# Altium footprint library uw-madison-parts.PcbLib: 30 footprints (part 2 of 2)
Each footprint in its own frame and in the unit in brackets; x right, y up, seen from the top. Pads: shape width x height; smd on the part's side, far side on the other; paste and mask are expansions set on the pad; w line width, h text height; cw(c..) or ccw(c..) is an arc to the next point about the centre after c.
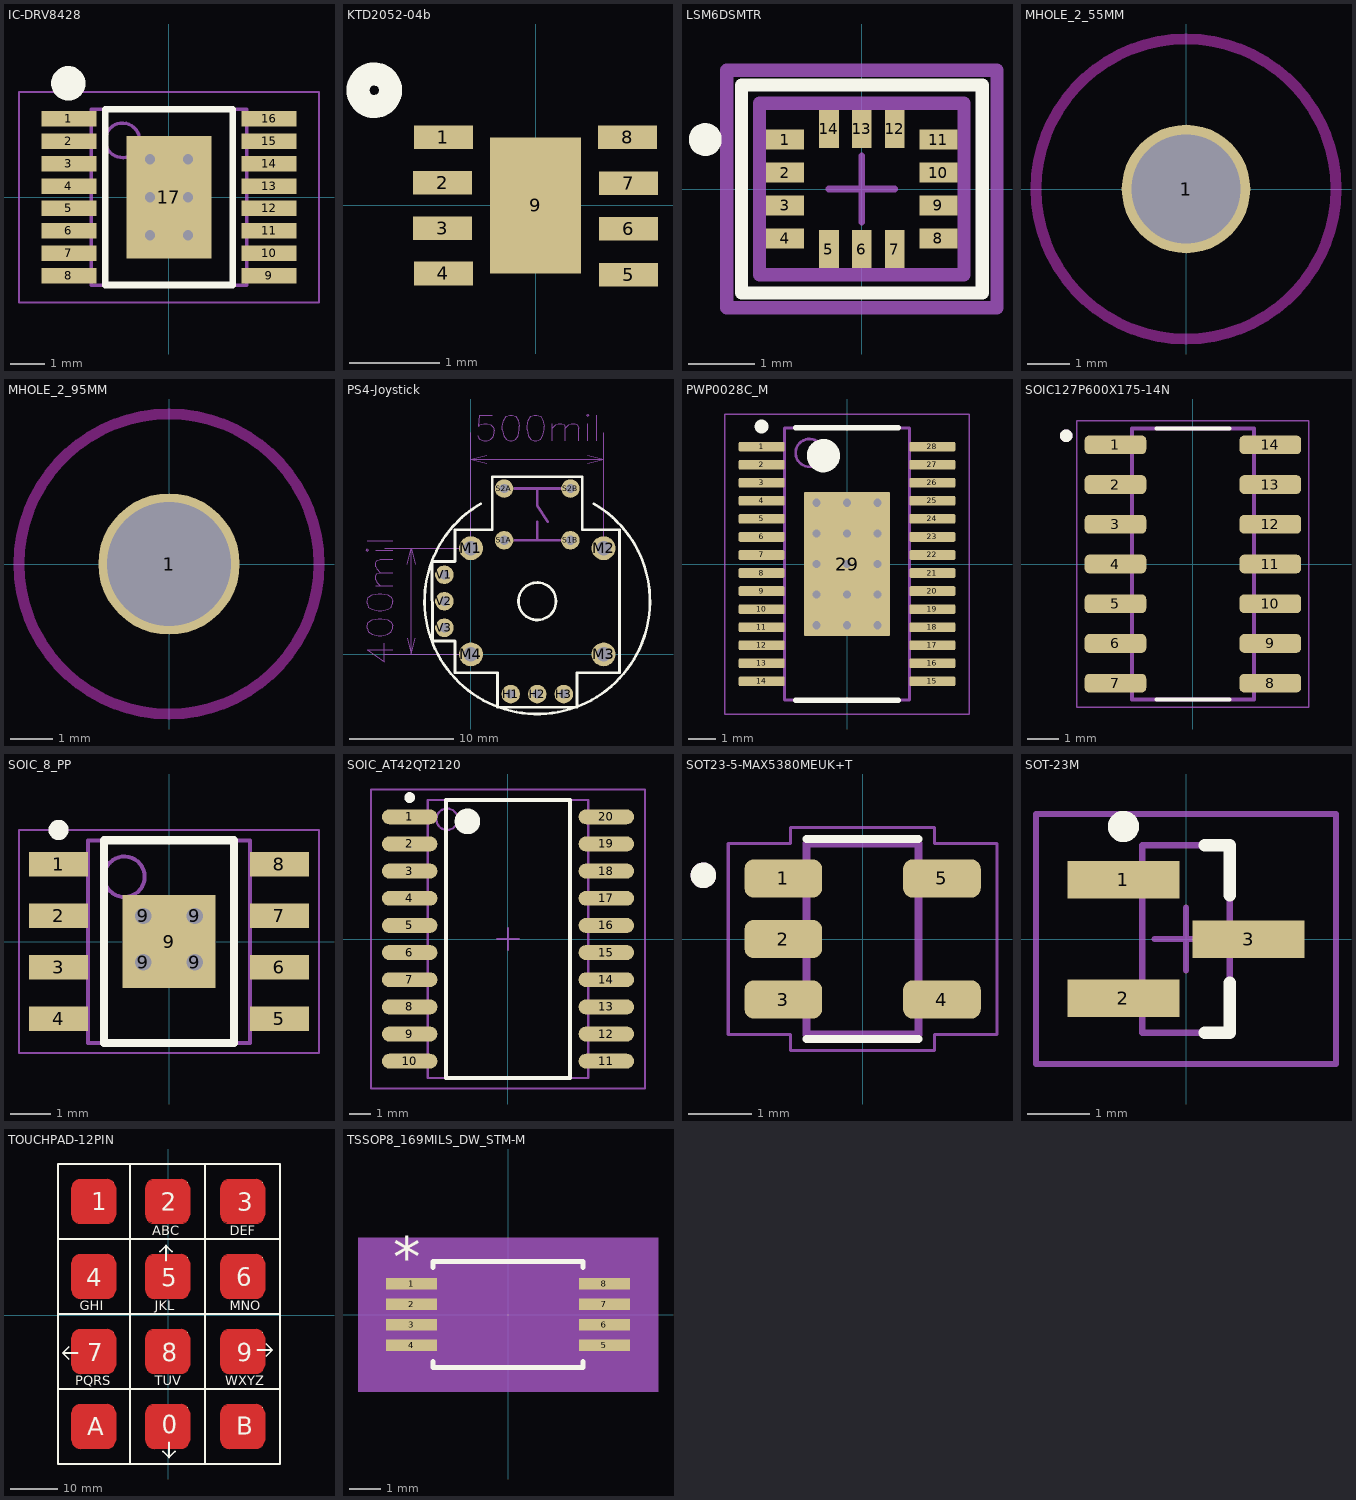
[diagram p1: the footprints below, top view; thin cyan lines are the x and y axes]

## IC-DRV8428 [mm] "TSOP, 16-Leads, Body 5.00x4.40mm, Pitch 0.65mm, Thermal Pad 3.55x2.46mm, IPC Low Density"
height 1.2
pads (17):
  rect 1.6x0.45 smd: 1(-2.9,2.275) 2(-2.9,1.625) 3(-2.9,0.975) 4(-2.9,0.325) 5(-2.9,-0.325) 6(-2.9,-0.975) 7(-2.9,-1.625) 8(-2.9,-2.275) 9(2.9,-2.275) 10(2.9,-1.625) 11(2.9,-0.975) 12(2.9,-0.325) 13(2.9,0.325) 14(2.9,0.975) 15(2.9,1.625) 16(2.9,2.275)
  rect 2.46x3.55 smd: 17(0,0)
via 0.55,-1.1 diameter 0.6 hole 0.3
via -0.55,-1.1 diameter 0.6 hole 0.3
via 0.55,0 diameter 0.6 hole 0.3
via -0.55,0 diameter 0.6 hole 0.3
via 0.55,1.1 diameter 0.6 hole 0.3
via -0.55,1.1 diameter 0.6 hole 0.3
Top Overlay:
  circle w0.5: c-2.921,3.302 r0.25
  lines w0.2: -1.85,-2.55 1.85,-2.55 1.85,2.55 -1.85,2.55 -1.85,-2.55
Mechanical 13:
  circle w0.1: c-1.35,1.65 r0.5
  lines w0.1: -2.25,-2.55 2.25,-2.55 2.25,2.55 -2.25,2.55 -2.25,-2.55
Mechanical 15:
  lines w0.05: -4.35,-3.05 4.35,-3.05 4.35,3.05 -4.35,3.05 -4.35,-3.05
  lines w0.1: -0.5,0 0.5,0 ; 0,-0.5 0,0.5
3D body: height 1.2, standoff 0.05, extent -2.25,-2.55 2.25,2.55

## KTD2052-04b [mm]
pads (9):
  rect 0.65x0.26 smd mask+0.09: 1(-1.016,0.75) 2(-1.025,0.25) 3(-1.025,-0.25) 4(-1.016,-0.75) 5(1.025,-0.762) 6(1.025,-0.258) 7(1.025,0.246) 8(1.016,0.75)
  rect 1x1.5 smd mask+0.09: 9(0,0)
Top Overlay:
  circle w0.254: c-1.778,1.27 r0.18

## LSM6DSMTR [mm]
pads (14):
  rect 0.575x0.3 smd paste+0 mask+0: 1(-1.162,0.75) 2(-1.162,0.25) 3(-1.162,-0.25) 4(-1.162,-0.75) 8(1.162,-0.75) 9(1.162,-0.25) 10(1.162,0.25) 11(1.162,0.75)
  rect 0.3x0.575 smd paste+0 mask+0: 5(-0.5,-0.913) 6(0,-0.913) 7(0.5,-0.913) 12(0.5,0.913) 13(0,0.913) 14(-0.5,0.913)
Top Overlay:
  circle w0.25: c-2.375,0.75 r0.125
  lines w0.2: -1.825,-1.575 1.825,-1.575 1.825,1.575 -1.825,1.575 -1.825,-1.575
Top 3D Body:
  lines w0.2: -1.55,-1.3 1.55,-1.3 1.55,1.3 -1.55,1.3 -1.55,-1.3
Top Courtyard:
  lines w0.2: -2.05,-1.8 2.05,-1.8 2.05,1.8 -2.05,1.8 -2.05,-1.8
Top Assembly:
  lines w0.2: -2.05,-1.8 2.05,-1.8 2.05,1.8 -2.05,1.8 -2.05,-1.8
  text ".Designator" at 0,0.188 h1
Top Component Center:
  lines w0.1: -0.5,0 0.5,0 ; 0,-0.5 0,0.5
3D body "IC_STMicroelectronics_LSM6DSMTR_eec.STEP": height 0.25, standoff 0, extent -2.05,-1.8 2.05,1.8

## MHOLE_2_55MM [mm]
pads (1):
  round 3 / inner round 4.572 / far side round 4.318 hole 2.55: 1(0,0)
Keep-Out Layer:
  circle w0.254: c0,0 r3.5

## MHOLE_2_95MM [mm]
pads (1):
  round 3.3 hole 2.9 mask-2539.97: 1(0,0)
Top Solder:
  circle w1.75: c0,0 r0.875
Bottom Solder:
  circle w1.75: c0,0 r0.875
Keep-Out Layer:
  circle w0.254: c0,0 r3.5

## PS4-Joystick [mil]
pads (14):
  round 70 hole 35: H1(150,-150) H2(250,-150) H3(350,-150) S1A(125,430) S1B(375,430) S2A(125,625) S2B(375,625) V1(-100,300) V2(-100,200) V3(-100,100)
  round 90 hole 55: M1(0,400) M2(500,400) M3(500,0) M4(0,0)
Top Overlay:
  circle w10: c250,200 r70.71
  lines w10: 37.5,568.06 ccw(c250,200) 462.5,568.06 ; -147,350 -145,50 -140,50 -60,50 -60,-70 100,-70 100,-200 400,-200 400,-70 560,-70 560,470 420,470 420,670 80,670 80,470 -60,470 -60,350 -147,350
Mechanical 15:
  lines w4: -391.08,427.23 -295.68,427.23 ; -359.28,258.13 -295.68,258.13 ; -359.28,392.73 -295.68,392.73 ; -341.08,258.13 -354.78,271.83 -359.28,280.93 -359.28,294.53 -354.78,303.63 -341.08,308.13 ; -327.48,40.93 -327.48,-27.27 -391.08,18.13 -295.68,18.13 ; -325.21,0 0,0 ; -325.21,400 0,400 0,835.56 ; -295.68,308.13 -341.08,308.13 ; -295.68,358.13 -341.08,358.13 -354.78,353.63 -359.28,344.53 -359.28,330.93 -354.78,321.83 -341.08,308.13 ; -240.21,60 -225.21,0 ; -240.21,340 -225.21,400 ; -210.21,60 -225.21,0 ; -210.21,340 -225.21,400 ; 25,824.2 29.5,815.1 34.1,810.6 47.7,806 61.4,806 75,810.6 84.1,819.7 88.6,833.3 88.6,842.4 84.1,856 75,865.1 61.4,869.7 47.7,869.7 34.1,865.1 29.5,860.6 34.1,901.5 79.5,901.5 ; 60,720.56 0,735.56 ; 60,750.56 0,735.56 ; 305.9,806 305.9,869.7 ; 305.9,851.5 319.5,865.1 328.6,869.7 342.3,869.7 351.4,865.1 355.9,851.5 ; 355.9,806 355.9,851.5 ; 405.9,806 405.9,851.5 401.4,865.1 392.3,869.7 378.6,869.7 369.5,865.1 355.9,851.5 ; 440,720.56 500,735.56 ; 440,750.56 500,735.56 ; 440.5,806 440.5,869.7 ; 475,806 475,901.5 ; 500,400 500,835.56 ; -225.21,0 -225.21,400 ; 0,735.56 500,735.56 ; -395.68,392.73 -391.08,397.23 -386.58,392.73 -391.08,388.13 -395.68,392.73 ; -391.08,98.13 -386.58,84.53 -372.98,75.43 -350.18,70.93 -336.58,70.93 -313.88,75.43 -300.18,84.53 -295.68,98.13 -295.68,107.23 -300.18,120.93 -313.88,130.03 -336.58,134.53 -350.18,134.53 -372.98,130.03 -386.58,120.93 -391.08,107.23 -391.08,98.13 ; -391.08,191.83 -386.58,178.13 -372.98,169.13 -350.18,164.53 -336.58,164.53 -313.88,169.13 -300.18,178.13 -295.68,191.83 -295.68,200.93 -300.18,214.53 -313.88,223.63 -336.58,228.13 -350.18,228.13 -372.98,223.63 -386.58,214.53 -391.08,200.93 -391.08,191.83 ; 118.6,846.9 118.6,860.6 123.2,883.3 132.3,896.9 145.9,901.5 155,901.5 168.6,896.9 177.7,883.3 182.3,860.6 182.3,846.9 177.7,824.2 168.6,810.6 155,806 145.9,806 132.3,810.6 123.2,824.2 118.6,846.9 ; 212.3,846.9 212.3,860.6 216.8,883.3 225.9,896.9 239.5,901.5 248.6,901.5 262.3,896.9 271.4,883.3 275.9,860.6 275.9,846.9 271.4,824.2 262.3,810.6 248.6,806 239.5,806 225.9,810.6 216.8,824.2 212.3,846.9 ; 435.9,901.5 440.5,896.9 445,901.5 440.5,906 435.9,901.5
  lines w10: 165,430 335,430 ; 165,625 335,625 ; 250.02,430 250,500 ; 250,625 250,560 290,500

## PWP0028C_M [mm]
pads (29):
  rrect29% 1.65x0.35 smd: 1(-3.075,4.225) 2(-3.075,3.575) 3(-3.075,2.925) 4(-3.075,2.275) 5(-3.075,1.625) 6(-3.075,0.975) 7(-3.075,0.325) 8(-3.075,-0.325) 9(-3.075,-0.975) 10(-3.075,-1.625) 11(-3.075,-2.275) 12(-3.075,-2.925) 13(-3.075,-3.575) 14(-3.075,-4.225) 15(3.075,-4.225) 16(3.075,-3.575) 17(3.075,-2.925) 18(3.075,-2.275) 19(3.075,-1.625) 20(3.075,-0.975) 21(3.075,-0.325) 22(3.075,0.325) 23(3.075,0.975) 24(3.075,1.625) 25(3.075,2.275) 26(3.075,2.925) 27(3.075,3.575) 28(3.075,4.225)
  rrect3% 3.1x5.18 smd: 29(0,0)
via -1.1,2.2 diameter 0.6 hole 0.3
via 0,2.2 diameter 0.6 hole 0.3
via 1.1,2.2 diameter 0.6 hole 0.3
via -1.1,1.1 diameter 0.6 hole 0.3
via 0,1.1 diameter 0.6 hole 0.3
via 1.1,1.1 diameter 0.6 hole 0.3
via -1.1,0 diameter 0.6 hole 0.3
via 0,0 diameter 0.6 hole 0.3
via 1.1,0 diameter 0.6 hole 0.3
via -1.1,-1.1 diameter 0.6 hole 0.3
via 0,-1.1 diameter 0.6 hole 0.3
via 1.1,-1.1 diameter 0.6 hole 0.3
via -1.1,-2.2 diameter 0.6 hole 0.3
via 0,-2.2 diameter 0.6 hole 0.3
via 1.1,-2.2 diameter 0.6 hole 0.3
Top Overlay:
  circle w0.25: c-3.075,4.95 r0.125
  circle w0.6: c-0.85,3.9 r0.3
  lines w0.2: -1.85,-4.9 1.85,-4.9 ; -1.85,4.9 1.85,4.9
Mechanical 1:
  text ".Designator" at -1.524,-0.508 h1.02
Mechanical 13:
  circle w0.1: c-1.35,4 r0.5
  lines w0.1: -2.25,-4.9 -2.25,4.9 2.25,4.9 2.25,-4.9 -2.25,-4.9
Mechanical 15:
  lines w0.05: -4.4,-5.4 -4.4,5.4 4.4,5.4 4.4,-5.4 -4.4,-5.4
  lines w0.1: -0.5,0 0.5,0 ; 0,-0.5 0,0.5
3D body: height 1.2, standoff 0.05, extent -2.25,-4.9 2.25,4.9

## SOIC127P600X175-14N [mm]
pads (14):
  rrect50% 1.97x0.6 smd: 1(-2.475,3.81) 2(-2.475,2.54) 3(-2.475,1.27) 4(-2.475,0) 5(-2.475,-1.27) 6(-2.475,-2.54) 7(-2.475,-3.81) 8(2.475,-3.81) 9(2.475,-2.54) 10(2.475,-1.27) 11(2.475,0) 12(2.475,1.27) 13(2.475,2.54) 14(2.475,3.81)
Top Overlay:
  circle w0.2: c-4.05,4.1 r0.1
  lines w0.127: -1.17,-4.325 1.17,-4.325 ; -1.17,4.325 1.17,4.325
Mechanical 13:
  circle w0.2: c-4.05,4.1 r0.1
  lines w0.127: -1.95,-4.325 1.95,-4.325 1.95,4.325 -1.95,4.325 -1.95,-4.325
Mechanical 15:
  lines w0.05: -3.71,-4.575 3.71,-4.575 3.71,4.575 -3.71,4.575 -3.71,-4.575

## SOIC_8_PP [mm] "SOIC, 8-Leads, Body 4.90x3.90mm, Pitch 1.27mm, Thermal Pad 2.29x2.29mm, IPC Medium Density"
height 1.7
pads (13):
  rect 1.45x0.6 smd: 1(-2.725,1.905) 2(-2.725,0.635) 3(-2.725,-0.635) 4(-2.725,-1.905) 5(2.725,-1.905) 6(2.725,-0.635) 7(2.725,0.635) 8(2.725,1.905)
  round 0.8 hole 0.4: 9(-0.635,-0.508) 9(-0.635,0.635) 9(0.635,-0.508) 9(0.635,0.635)
  rect 2.29x2.29 smd: 9(0,0)
Top Overlay:
  circle w0.25: c-2.725,2.755 r0.125
  lines w0.2: -1.6,-2.5 1.6,-2.5 1.6,2.5 -1.6,2.5 -1.6,-2.5
Top Courtyard:
  lines w0.05: -3.7,-2.75 3.7,-2.75 3.7,2.75 -3.7,2.75 -3.7,-2.75
  lines w0.1: -0.5,0 0.5,0 ; 0,-0.5 0,0.5
Top Assembly:
  circle w0.1: c-1.1,1.6 r0.5
  lines w0.1: -2,-2.5 2,-2.5 2,2.5 -2,2.5 -2,-2.5
3D body "SOIC127P600X170_HS-9N.step": height 1.7, standoff 0, extent -3,-2.5 3,2.5

## SOIC_AT42QT2120 [mm] "SOIC, 20-Leads, Body 12.8x7.5mm, Pitch 1.27mm, IPC Low Density"
height 2.65
pads (20):
  oval 2.6x0.7 smd: 1(-4.6,5.715) 2(-4.6,4.445) 3(-4.6,3.175) 4(-4.6,1.905) 5(-4.6,0.635) 6(-4.6,-0.635) 7(-4.6,-1.905) 8(-4.6,-3.175) 9(-4.6,-4.445) 10(-4.6,-5.715) 11(4.6,-5.715) 12(4.6,-4.445) 13(4.6,-3.175) 14(4.6,-1.905) 15(4.6,-0.635) 16(4.6,0.635) 17(4.6,1.905) 18(4.6,3.175) 19(4.6,4.445) 20(4.6,5.715)
Top Overlay:
  circle w0.25: c-4.6,6.615 r0.125
  circle w0.6: c-1.9,5.5 r0.3
  lines w0.2: -2.9,-6.5 -2.9,6.5 2.9,6.5 2.9,-6.5 -2.9,-6.5
Mechanical 13:
  circle w0.1: c-2.85,5.6 r0.5
  lines w0.1: -3.75,-6.5 -3.75,6.5 3.75,6.5 3.75,-6.5 -3.75,-6.5
Mechanical 15:
  lines w0.1: -0.5,0 0.5,0 ; 0,-0.5 0,0.5 ; -6.4,-7 -6.4,7 6.4,7 6.4,-7 -6.4,-7
3D body: height 2.65, standoff 0, extent -3.75,-6.5 3.75,6.5

## SOT23-5-MAX5380MEUK+T [mm]
pads (5):
  rrect50% 1.22x0.6 smd: 1(-1.245,0.95) 2(-1.245,0) 3(-1.245,-0.95) 4(1.245,-0.95) 5(1.245,0.95)
Top Overlay:
  circle w0.2: c-2.5,1 r0.1
  lines w0.127: -0.88,-1.57 0.88,-1.57 ; -0.88,1.57 0.88,1.57
Mechanical 13:
  circle w0.2: c-2.5,1 r0.1
  lines w0.127: -0.88,-1.5 -0.88,1.5 0.88,1.5 0.88,-1.5 -0.88,-1.5
Mechanical 15:
  lines w0.05: -2.11,-1.5 -1.13,-1.5 -1.13,-1.75 1.13,-1.75 1.13,-1.5 2.11,-1.5 2.11,1.5 1.13,1.5 1.13,1.75 -1.13,1.75 -1.13,1.5 -2.11,1.5 -2.11,-1.5

## SOT-23M [mm]
pads (3):
  rect 1.8x0.6 smd: 1(-1,0.95) 2(-1,-0.95) 3(1,0)
Top Overlay:
  circle w0.25: c-1,1.8 r0.125
  lines w0.2: 0.3,-1.5 0.7,-1.5 0.7,-0.7 ; 0.3,1.5 0.7,1.5 0.7,0.7
Mechanical 13:
  lines w0.1: -0.7,-1.5 -0.7,1.5 0.7,1.5 0.7,-1.5 -0.7,-1.5
Mechanical 15:
  lines w0.1: -0.5,0 0.5,0 ; 0,-0.5 0,0.5 ; -2.4,-2 -2.4,2 2.4,2 2.4,-2 -2.4,-2
3D body: height 1.1, standoff 0, extent -0.7,-1.5 0.7,1.5

## TOUCHPAD-12PIN [mil] "4X3 numeric touch pad"
pads (12):
  round 5 smd mask+0: 0(162.32,-770.18) 1(-452.68,1104.82) 2(162.32,1104.82) 3(787.32,1104.82) 4(-452.68,479.82) 5(162.32,479.82) 6(787.32,479.82) 7(-452.68,-145.18) 8(162.32,-145.18) 9(787.32,-145.18) 10(-452.68,-770.18) 11(787.32,-770.18)
Top Layer:
  region: 807.32,-815.18 807.32,-1040.18 782.32,-1090.18 732.32,-1115.18 507.32,-1115.18 457.32,-1090.18 432.32,-1040.18 432.32,-815.18 457.32,-765.18 507.32,-740.18 732.32,-740.18 782.32,-765.18
  region: -432.68,-815.18 -432.68,-1040.18 -457.68,-1090.18 -507.68,-1115.18 -732.68,-1115.18 -782.68,-1090.18 -807.68,-1040.18 -807.68,-815.18 -782.68,-765.18 -732.68,-740.18 -507.68,-740.18 -457.68,-765.18
  region: 807.32,-190.18 807.32,-415.18 782.32,-465.18 732.32,-490.18 507.32,-490.18 457.32,-465.18 432.32,-415.18 432.32,-190.18 457.32,-140.18 507.32,-115.18 732.32,-115.18 782.32,-140.18
  region: 182.32,-190.18 182.32,-415.18 157.32,-465.18 107.32,-490.18 -117.68,-490.18 -167.68,-465.18 -192.68,-415.18 -192.68,-190.18 -167.68,-140.18 -117.68,-115.18 107.32,-115.18 157.32,-140.18
  region: -432.68,-190.18 -432.68,-415.18 -457.68,-465.18 -507.68,-490.18 -732.68,-490.18 -782.68,-465.18 -807.68,-415.18 -807.68,-190.18 -782.68,-140.18 -732.68,-115.18 -507.68,-115.18 -457.68,-140.18
  region: 807.32,434.82 807.32,209.82 782.32,159.82 732.32,134.82 507.32,134.82 457.32,159.82 432.32,209.82 432.32,434.82 457.32,484.82 507.32,509.82 732.32,509.82 782.32,484.82
  region: 182.32,434.82 182.32,209.82 157.32,159.82 107.32,134.82 -117.68,134.82 -167.68,159.82 -192.68,209.82 -192.68,434.82 -167.68,484.82 -117.68,509.82 107.32,509.82 157.32,484.82
  region: -432.68,434.82 -432.68,209.82 -457.68,159.82 -507.68,134.82 -732.68,134.82 -782.68,159.82 -807.68,209.82 -807.68,434.82 -782.68,484.82 -732.68,509.82 -507.68,509.82 -457.68,484.82
  region: -432.68,1059.82 -432.68,834.82 -457.68,784.82 -507.68,759.82 -732.68,759.82 -782.68,784.82 -807.68,834.82 -807.68,1059.82 -782.68,1109.82 -732.68,1134.82 -507.68,1134.82 -457.68,1109.82
  region: 182.32,1059.82 182.32,834.82 157.32,784.82 107.32,759.82 -117.68,759.82 -167.68,784.82 -192.68,834.82 -192.68,1059.82 -167.68,1109.82 -117.68,1134.82 107.32,1134.82 157.32,1109.82
  region: 807.32,1059.82 807.32,834.82 782.32,784.82 732.32,759.82 507.32,759.82 457.32,784.82 432.32,834.82 432.32,1059.82 457.32,1109.82 507.32,1134.82 732.32,1134.82 782.32,1109.82
  region: 182.32,-815.18 182.32,-1040.18 157.32,-1090.18 107.32,-1115.18 -117.68,-1115.18 -167.68,-1090.18 -192.68,-1040.18 -192.68,-815.18 -167.68,-765.18 -117.68,-740.18 107.32,-740.18 157.32,-765.18
  lines w10: -802.68,-1040.18 ccw(c-732.68,-1040.18) -732.68,-1110.18 ; -802.68,-815.18 cw(c-732.68,-815.18) -732.68,-745.18 ; -802.68,-415.18 ccw(c-732.68,-415.18) -732.68,-485.18 ; -802.68,-190.18 cw(c-732.68,-190.18) -732.68,-120.18 ; -802.68,209.82 ccw(c-732.68,209.82) -732.68,139.82 ; -802.68,434.82 cw(c-732.68,434.82) -732.68,504.82 ; -802.68,834.82 ccw(c-732.68,834.82) -732.68,764.82 ; -802.68,1059.82 cw(c-732.68,1059.82) -732.68,1129.82 ; -507.68,-1110.18 ccw(c-507.68,-1040.18) -437.68,-1040.18 ; -507.68,-745.18 cw(c-507.68,-815.18) -437.68,-815.18 ; -507.68,-485.18 ccw(c-507.68,-415.18) -437.68,-415.18 ; -507.68,-120.18 cw(c-507.68,-190.18) -437.68,-190.18 ; -507.68,139.82 ccw(c-507.68,209.82) -437.68,209.82 ; -507.68,504.82 cw(c-507.68,434.82) -437.68,434.82 ; -507.68,764.82 ccw(c-507.68,834.82) -437.68,834.82 ; -507.68,1129.82 cw(c-507.68,1059.82) -437.68,1059.82 ; -187.68,-1040.18 ccw(c-117.68,-1040.18) -117.68,-1110.18 ; -187.68,-815.18 cw(c-117.68,-815.18) -117.68,-745.18 ; -187.68,-415.18 ccw(c-117.68,-415.18) -117.68,-485.18 ; -187.68,-190.18 cw(c-117.68,-190.18) -117.68,-120.18 ; -187.68,209.82 ccw(c-117.68,209.82) -117.68,139.82 ; -187.68,434.82 cw(c-117.68,434.82) -117.68,504.82 ; -187.68,834.82 ccw(c-117.68,834.82) -117.68,764.82 ; -187.68,1059.82 cw(c-117.68,1059.82) -117.68,1129.82 ; 107.32,-1110.18 ccw(c107.32,-1040.18) 177.32,-1040.18 ; 107.32,-745.18 cw(c107.32,-815.18) 177.32,-815.18 ; 107.32,-485.18 ccw(c107.32,-415.18) 177.32,-415.18 ; 107.32,-120.18 cw(c107.32,-190.18) 177.32,-190.18 ; 107.32,139.82 ccw(c107.32,209.82) 177.32,209.82 ; 107.32,504.82 cw(c107.32,434.82) 177.32,434.82 ; 107.32,764.82 ccw(c107.32,834.82) 177.32,834.82 ; 107.32,1129.82 cw(c107.32,1059.82) 177.32,1059.82 ; 437.32,-1040.18 ccw(c507.32,-1040.18) 507.32,-1110.18 ; 437.32,-815.18 cw(c507.32,-815.18) 507.32,-745.18 ; 437.32,-415.18 ccw(c507.32,-415.18) 507.32,-485.18 ; 437.32,-190.18 cw(c507.32,-190.18) 507.32,-120.18 ; 437.32,209.82 ccw(c507.32,209.82) 507.32,139.82 ; 437.32,434.82 cw(c507.32,434.82) 507.32,504.82 ; 437.32,834.82 ccw(c507.32,834.82) 507.32,764.82 ; 437.32,1059.82 cw(c507.32,1059.82) 507.32,1129.82 ; 732.32,-1110.18 ccw(c732.32,-1040.18) 802.32,-1040.18 ; 732.32,-745.18 cw(c732.32,-815.18) 802.32,-815.18 ; 732.32,-485.18 ccw(c732.32,-415.18) 802.32,-415.18 ; 732.32,-120.18 cw(c732.32,-190.18) 802.32,-190.18 ; 732.32,139.82 ccw(c732.32,209.82) 802.32,209.82 ; 732.32,504.82 cw(c732.32,434.82) 802.32,434.82 ; 732.32,764.82 ccw(c732.32,834.82) 802.32,834.82 ; 732.32,1129.82 cw(c732.32,1059.82) 802.32,1059.82
Top Overlay:
  lines w15: -827.68,-365.18 -877.68,-315.18 ; -827.68,-265.18 -877.68,-315.18 ; -752.68,-315.18 -877.68,-315.18 ; -67.68,529.82 -17.68,579.82 ; -42.68,-1135.18 7.32,-1185.18 ; -17.68,454.82 -17.68,579.82 ; 7.32,-1060.18 7.32,-1185.18 ; 32.32,529.82 -17.68,579.82 ; 57.32,-1135.18 7.32,-1185.18 ; 742.32,-290.18 867.32,-290.18 ; 817.32,-340.18 867.32,-290.18 ; 817.32,-240.18 867.32,-290.18
  lines w20: -917.68,-615.18 932.32,-615.18 ; -917.68,9.82 932.32,9.82 ; -917.68,634.82 932.32,634.82 ; -317.68,-1240.18 -317.68,1259.82 ; 307.32,-1240.18 307.32,1259.82 ; -917.68,-1240.18 932.32,-1240.18 932.32,1259.82 -917.68,1259.82 -917.68,-1240.18
  text "WXYZ" at 477.32,-585.18 h78.74
  text "TUV" at -112.68,-585.18 h78.74
  text "PQRS" at -772.68,-585.18 h78.74
  text "1" at -642.68,874.82 h150
  text "2" at -62.68,869.82 h150
  text "3" at 577.32,869.82 h150
  text "4" at -682.68,239.82 h150
  text "5" at -57.68,239.82 h150
  text "6" at 567.32,244.82 h150
  text "7" at -672.68,-385.18 h150
  text "8" at -52.68,-385.18 h150
  text "9" at 572.32,-385.18 h150
  text "A" at -672.68,-1000.18 h150
  text "0" at -52.68,-985.18 h150
  text "B" at 567.32,-995.18 h150
  text "ABC" at -132.68,664.82 h78.74
  text "DEF" at 512.32,664.82 h78.74
  text "GHI" at -737.68,39.82 h78.74
  text "JKL" at -112.68,39.82 h78.74
  text "MNO" at 512.32,39.82 h78.74

## TSSOP8_169MILS_DW_STM-M [mil]
pads (8):
  rect 63.5x14 smd paste+0 mask+0: 1(-120.25,38.39) 2(-120.25,12.8) 3(-120.25,-12.8) 4(-120.25,-38.39) 5(120.25,-38.39) 6(120.25,-12.8) 7(120.25,12.8) 8(120.25,38.39)
Top Overlay:
  lines w6: -93.5,-58.49 -93.5,-66 93.5,-66 93.5,-58.49 ; -93.5,58.49 -93.5,66 93.5,66 93.5,58.49
  text "*" at -142.75,47.39 h50
Mechanical 5:
  region: 187,-96 -187,-96 -187,96 187,96
Mechanical 13:
  lines w0: -12,61 ccw(c0,61) 12,61
  lines w1: -130,-44.39 -88.5,-44.39 -88.5,-32.39 -130,-32.39 -130,-44.39 ; -130,-18.8 -88.5,-18.8 -88.5,-6.8 -130,-6.8 -130,-18.8 ; -130,6.8 -88.5,6.8 -88.5,18.8 -130,18.8 -130,6.8 ; -130,32.39 -88.5,32.39 -88.5,44.39 -130,44.39 -130,32.39 ; -88.5,-61 -88.5,61 88.5,61 88.5,-61 -88.5,-61 ; 88.5,-44.39 130,-44.39 130,-32.39 88.5,-32.39 88.5,-44.39 ; 88.5,-18.8 130,-18.8 130,-6.8 88.5,-6.8 88.5,-18.8 ; 88.5,6.8 130,6.8 130,18.8 88.5,18.8 88.5,6.8 ; 88.5,32.39 130,32.39 130,44.39 88.5,44.39 88.5,32.39
  text "*" at -86,8 h50
Mechanical 15:
  region: -108.5,-65.39 -172,-65.39 -172,65.39 -108.5,65.39 -108.5,81 108.5,81 108.5,65.39 172,65.39 172,-65.39 108.5,-65.39 108.5,-81 -108.5,-81
  lines w6: -172,-65.39 -108.5,-65.39 -108.5,-81 108.5,-81 108.5,-65.39 172,-65.39 172,65.39 108.5,65.39 108.5,81 -108.5,81 -108.5,65.39 -172,65.39 -172,-65.39
3D body "TSSOP8_169MILS_DW_STM.step": height 47.09, standoff 0, extent -130,-60.98 130,60.98